# Altium footprint library PcbLib1.PcbLib: 3 footprints
Each footprint in its own frame and in the unit in brackets; x right, y up, seen from the top. Pads: shape width x height; smd on the part's side, far side on the other; paste and mask are expansions set on the pad; w line width, h text height; cw(c..) or ccw(c..) is an arc to the next point about the centre after c.
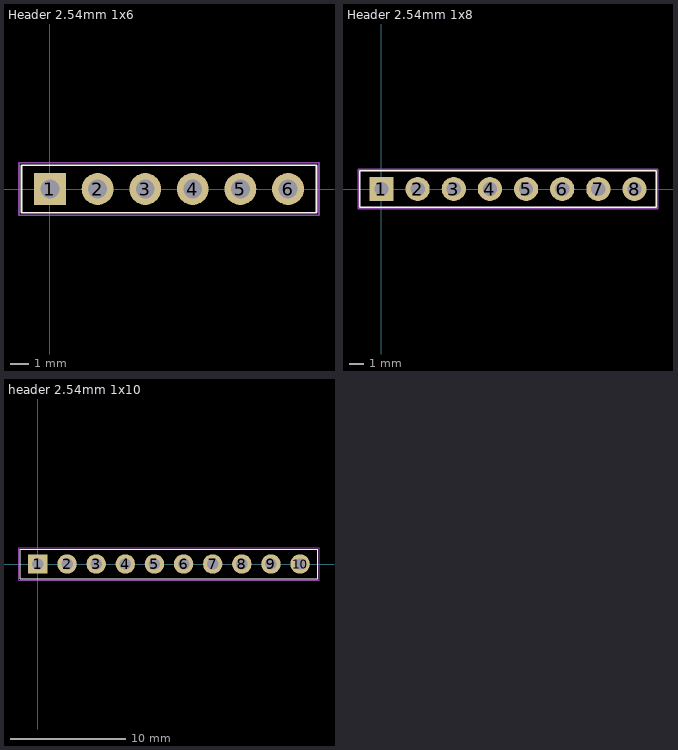
[diagram p0: the footprints below, top view; thin cyan lines are the x and y axes]

## Header 2.54mm 1x6 [mm] "Header 2.54mm 1x6"
pads (6):
  rect 1.7x1.7 hole 1: 1(0,0)
  round 1.7 hole 1: 2(2.54,0) 3(5.08,0) 4(7.62,0) 5(10.16,0) 6(12.7,0)
Top Overlay:
  lines w0.1: -1.524,-1.27 -1.524,1.27 14.224,1.27 14.224,-1.27 -1.524,-1.27
Mechanical 3:
  lines w0.1: -1.651,-1.397 -1.651,1.397 14.351,1.397 14.351,-1.397 -1.651,-1.397
3D body "User Library-Header_Fem_1X6.STEP": height 8.5, standoff -3.2, extent -1.516,-1.27 14.224,1.27

## Header 2.54mm 1x8 [mm] "Header 2.54mm 1x8"
pads (8):
  rect 1.7x1.7 hole 1: 1(0,0)
  round 1.7 hole 1: 2(2.54,0) 3(5.08,0) 4(7.62,0) 5(10.16,0) 6(12.7,0) 7(15.24,0) 8(17.78,0)
Top Overlay:
  lines w0.1: -1.524,-1.27 -1.524,1.27 19.304,1.27 19.304,-1.27 -1.524,-1.27
Mechanical 3:
  lines w0.1: -1.651,-1.397 -1.651,1.397 19.431,1.397 19.431,-1.397 -1.651,-1.397
3D body "User Library-Header _Fem_1X8.STEP": height 8.5, standoff -3.2, extent -1.52,-1.27 19.3,1.27

## header 2.54mm 1x10 [mm] "header 2.54mm 1x10"
pads (10):
  rect 1.7x1.7 hole 1: 1(0,0)
  round 1.7 hole 1: 2(2.54,0) 3(5.08,0) 4(7.62,0) 5(10.16,0) 6(12.7,0) 7(15.24,0) 8(17.78,0) 9(20.32,0) 10(22.86,0)
Top Overlay:
  lines w0.1: -1.524,-1.27 -1.524,1.27 24.384,1.27 24.384,-1.27 -1.524,-1.27
Mechanical 3:
  lines w0.1: -1.651,-1.397 24.511,-1.397 24.511,1.397 -1.651,1.397 -1.651,-1.397
3D body "User Library-Header_Fem_1X10.STEP": height 8.5, standoff -3.2, extent -1.52,-1.295 24.38,1.245